# Altium schematic symbol library conn-6x1_0.Schlib: 1 symbol
Pins are listed as number, name and electrical type; pins without a type are passive.

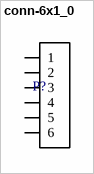
[diagram p0: symbol conn-6x1_0]

## conn-6x1_0
designator P?  (value not drawn)
Connector, 6x1
pins: 1, 2, 3, 4, 5, 6